# EAGLE library part J1B1211CCD (library ds_con)
RJ45Receptacle 1 Shielded Bend insert cat5 Gold Phosphor Bronze WithLED -40℃~+85℃ Plugin Ethernet Connectors / Modular Connectors (RJ45 RJ11) ROHS
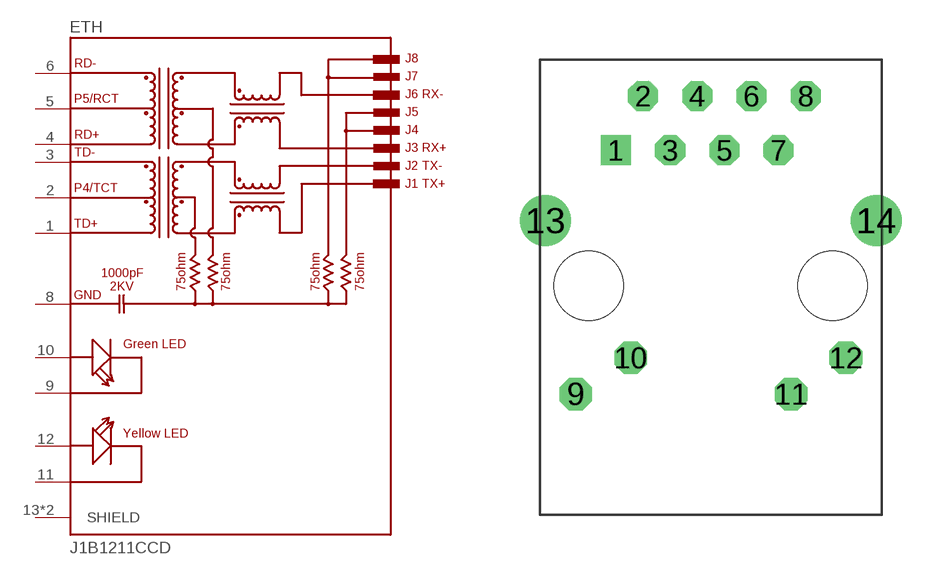
[diagram p31: symbol with the pads of J1B1211CCD; footprint J1B1211CCD]

Designator prefix ETH

## J1B1211CCD (DATASHEET: file:///C:/Users/sdvid/Downloads/j1b1211ccd.pdf; DESCRIPTION: RJ45Receptacle 1 Shielded Bend insert cat5 Gold Phosphor Bronze WithLED -40℃~+85℃ Plugin Ethernet Connectors / Modular Connectors (RJ45 RJ11) ROHS; HQ_PART: UN0002907; LCSC_PART: C910371; MANUFACTURER: WIZnet; MPN: J1B1211CCD; ROHS: YES; VALUE: J1B1211CCD)  [J1B1211CCD]
1  TD+  pas
2  P4/TCT  pas
3  TD-  pas
4  RD+  pas
5  P5/RCT  pas
6  RD-  pas
8  GND  pwr
9  GREEN-  pas
10  GREEN+  pas
11  YELLOW-  pas
12  YELLOW+  pas
13  SHIELD  pas
14  SHIELD  pas

## Footprint J1B1211CCD (pad centres in mm)
drill 0.9 square: 1 -4.445,6.35
drill 0.9 octagon: 2 -3.175,8.89; 3 -1.905,6.35; 4 -0.635,8.89; 5 0.635,6.35; 6 1.905,8.89; 7 3.175,6.35; 8 4.445,8.89
drill 1.02 octagon: 9 -6.325,-5.08; 10 -3.758,-3.38; 11 3.758,-5.08; 12 6.325,-3.38
drill 1.6: 13 -7.75,3.05; 14 7.75,3.05
hole 3.25 at -5.715,0
hole 3.25 at 5.715,0